# Altium footprint library PcbLib1.PcbLib: 33 footprints (part 3 of 3)
Each footprint in its own frame and in the unit in brackets; x right, y up, seen from the top. Pads: shape width x height; smd on the part's side, far side on the other; paste and mask are expansions set on the pad; w line width, h text height; cw(c..) or ccw(c..) is an arc to the next point about the centre after c.
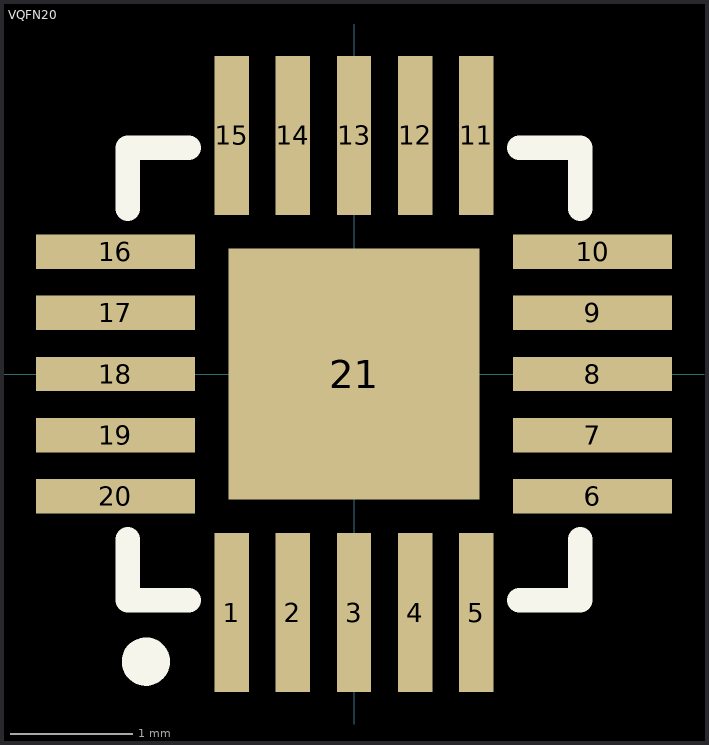
[diagram p2: the footprint, top view; thin cyan lines are the x and y axes]

## VQFN20 [mm]
pads (21):
  rect 0.28x1.3 smd: 1(-1,-1.95) 2(-0.5,-1.95) 3(0,-1.95) 4(0.5,-1.95) 5(1,-1.95) 11(1,1.95) 12(0.5,1.95) 13(0,1.95) 14(-0.5,1.95) 15(-1,1.95)
  rect 1.3x0.28 smd: 6(1.95,-1) 7(1.95,-0.5) 8(1.95,0) 9(1.95,0.5) 10(1.95,1) 16(-1.95,1) 17(-1.95,0.5) 18(-1.95,0) 19(-1.95,-0.5) 20(-1.95,-1)
  rect 2.05x2.05 smd: 21(0,0)
Top Overlay:
  circle w0.254: c-1.7,-2.35 r0.071
  lines w0.2: -1.85,-1.35 -1.85,-1.85 -1.35,-1.85 ; -1.85,1.35 -1.85,1.85 -1.35,1.85 ; 1.35,-1.85 1.85,-1.85 1.85,-1.35 ; 1.35,1.85 1.85,1.85 1.85,1.35
3D body "RGR0020A.stp": height 1, standoff 0, extent -1.75,-1.75 1.75,1.75